# Altium footprint library Miscellaneous.PcbLib: 1 footprints
Each footprint in its own frame and in the unit in brackets; x right, y up, seen from the top. Pads: shape width x height; smd on the part's side, far side on the other; paste and mask are expansions set on the pad; w line width, h text height; cw(c..) or ccw(c..) is an arc to the next point about the centre after c.
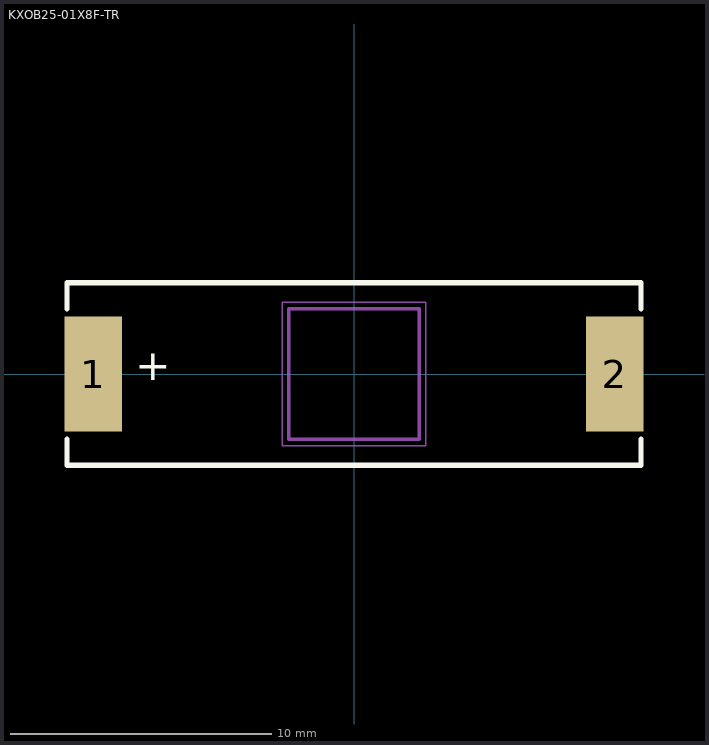
[diagram p0: the footprint, top view; thin cyan lines are the x and y axes]

## KXOB25-01X8F-TR [mm] "KXOB25-01X8F-TR"
pads (2):
  rect 2.2x4.4 smd: 1(-10,0) 2(10,0)
Top Overlay:
  lines w0.2: -11,-2.491 -11,-3.5 11,-3.5 11,-2.491 ; -11,2.491 -11,3.5 11,3.5 11,2.491
  text "+" at -8.382,-0.64 h2.03
Mechanical 13:
  lines w0.127: -2.5,-2.5 -2.5,2.5 2.5,2.5 2.5,-2.5 -2.5,-2.5
Mechanical 15:
  lines w0.05: -2.75,-2.75 -2.75,2.75 2.75,2.75 2.75,-2.75 -2.75,-2.75
3D body: height 1.8, standoff 0, extent -11,-3.5 11,3.5